# EAGLE library part 7W2_CONNECTOR_WITH_MOUNT_HOLES (library main_library)
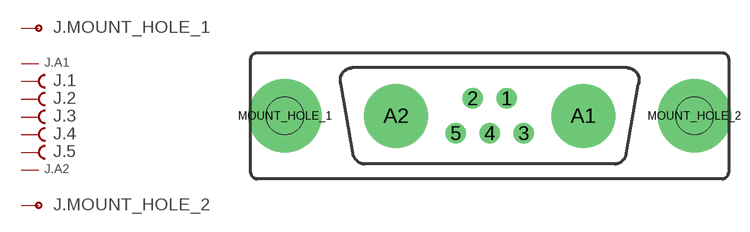
[diagram p3: symbol with the pads of MICRO_TCA_7W2_FEMALE_WITH_MOUNT_HOLES; footprint MICRO_TCA_7W2_FEMALE_WITH_MOUNT_HOLES]

Designator prefix J; gates .1=F .2=F .3=F .4=F .5=F .A1=POWER_PIN .A2=POWER_PIN .MOUNT_HOLE_1=MOUNT_HOLE .MOUNT_HOLE_2=MOUNT_HOLE

## 7W2_CONNECTOR_WITH_MOUNT_HOLES  [MICRO_TCA_7W2_FEMALE_WITH_MOUNT_HOLES]
1  .1:F  pas
2  .2:F  pas
3  .3:F  pas
4  .4:F  pas
5  .5:F  pas
A1  .A1:A  pwr
A2  .A2:A  pwr
MOUNT_HOLE_1  .MOUNT_HOLE_1:MOUNT_HOLE
MOUNT_HOLE_2  .MOUNT_HOLE_2:MOUNT_HOLE

## Footprint MICRO_TCA_7W2_FEMALE_WITH_MOUNT_HOLES (pad centres in mm)
THOMAS&BETTS H2R15ST29x
drill 1.092: 1 1.384,1.422; 2 -1.384,1.422; 3 2.769,-1.422; 4 0,-1.422; 5 -2.769,-1.422
drill 4.191: A1 7.62,0; A2 -7.62,0
drill 3.048 pad 5.969: MOUNT_HOLE_1 -16.662,0; MOUNT_HOLE_2 16.662,0
hole 3.048 at -16.662,0
hole 3.048 at 16.662,0